# EAGLE library part SIMHOLDER (library SIM Holder)
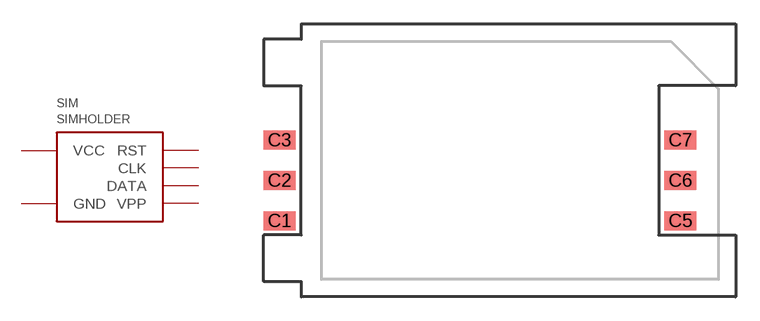
[diagram p0: symbol with the pads of SIMHOLDER-SMD; footprint SIMHOLDER-SMD]

Designator prefix SIM

## SIMHOLDER-SMD  [SIMHOLDER-SMD]
C1  VCC  pwr
C2  RST  in
C3  CLK  in
C5  GND  pwr
C6  VPP  in
C7  DATA

## Footprint SIMHOLDER-SMD (pad centres in mm)
smd 2 x 1.2: C1 -12.61,-3.81; C2 -12.61,-1.27; C3 -12.61,1.27; C5 12.61,-3.81; C6 12.61,-1.27; C7 12.61,1.27